# Altium schematic symbol library Fuses.SchLib: 1 symbol
Pins are listed as number, name and electrical type; pins without a type are passive.

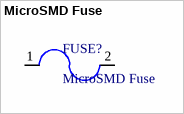
[diagram p0: symbol MicroSMD Fuse]

## MicroSMD Fuse
designator FUSE?
Tyco microSMD075F Fuse; Trip Current: *
footprint microSMD075F (Overcurrent Protection Device)
pins: 1, 2